# Altium schematic symbol library MAX14930AASE&plus_.SchLib: 1 symbol
Pins are listed as number, name and electrical type; pins without a type are passive.

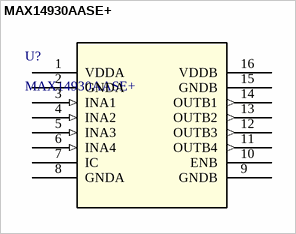
[diagram p0: symbol MAX14930AASE+]

## MAX14930AASE+
designator U?
No Description Available; Mfr_Name: Maxim Integrated Products; Copyright: Copyright (C) 2021 Ultra Librarian. All rights reserved.; Manufacturer_Part_Number: MAX14930AASE+; RefDes: RefDes; Type: DEV
footprint 21-0041_S16+1_MXM
pins: 1 VDDA (power), 2 GNDA (power), 3 INA1 (in), 4 INA2 (in), 5 INA3 (in), 6 INA4 (in), 7 IC, 8 GNDA (power), 9 GNDB (power), 10 ENB, 11 OUTB4 (out), 12 OUTB3 (out), 13 OUTB2 (out), 14 OUTB1 (out), 15 GNDB (power), 16 VDDB (power)